# EAGLE library part DS90C124 (library Traficon)
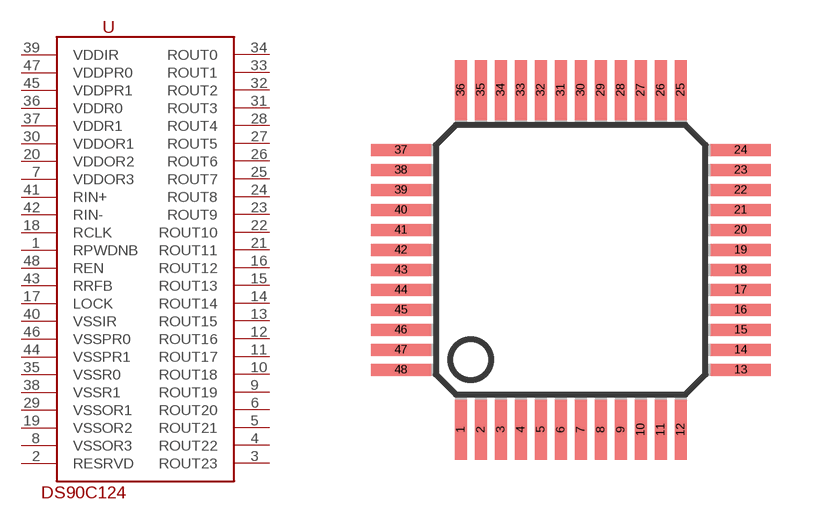
[diagram p169: symbol with the pads of TQFP48; footprint TQFP48]

Designator prefix U

## DS90C124  [TQFP48]
1  RPWDNB  in
2  RESRVD  pas
3  ROUT23  out
4  ROUT22  out
5  ROUT21  out
6  ROUT20  out
7  VDDOR3  sup
8  VSSOR3  sup
9  ROUT19  out
10  ROUT18  out
11  ROUT17  out
12  ROUT16  out
13  ROUT15  out
14  ROUT14  out
15  ROUT13  out
16  ROUT12  out
17  LOCK  out
18  RCLK  out
19  VSSOR2  sup
20  VDDOR2  sup
21  ROUT11  out
22  ROUT10  out
23  ROUT9  out
24  ROUT8  out
25  ROUT7  out
26  ROUT6  out
27  ROUT5  out
28  ROUT4  out
29  VSSOR1  sup
30  VDDOR1  sup
31  ROUT3  out
32  ROUT2  out
33  ROUT1  out
34  ROUT0  out
35  VSSR0  sup
36  VDDR0  sup
37  VDDR1  sup
38  VSSR1  sup
39  VDDIR  sup
40  VSSIR  sup
41  RIN+  in
42  RIN-  in
43  RRFB  in
44  VSSPR1  sup
45  VDDPR1  sup
46  VSSPR0  sup
47  VDDPR0  sup
48  REN  in

## Footprint TQFP48 (pad centres in mm)
Thin Quad Flat Pack
smd 0.3 x 1.5: 1 -2.75,-4.25; 2 -2.25,-4.25; 3 -1.75,-4.25; 4 -1.25,-4.25; 5 -0.75,-4.25; 6 -0.25,-4.25; 7 0.25,-4.25; 8 0.75,-4.25; 9 1.25,-4.25; 10 1.75,-4.25; 11 2.25,-4.25; 12 2.75,-4.25; 25 2.75,4.25; 26 2.25,4.25; 27 1.75,4.25; 28 1.25,4.25; 29 0.75,4.25; 30 0.25,4.25; 31 -0.25,4.25; 32 -0.75,4.25; 33 -1.25,4.25; 34 -1.75,4.25; 35 -2.25,4.25; 36 -2.75,4.25
smd 1.5 x 0.3: 13 4.25,-2.75; 14 4.25,-2.25; 15 4.25,-1.75; 16 4.25,-1.25; 17 4.25,-0.75; 18 4.25,-0.25; 19 4.25,0.25; 20 4.25,0.75; 21 4.25,1.25; 22 4.25,1.75; 23 4.25,2.25; 24 4.25,2.75; 37 -4.25,2.75; 38 -4.25,2.25; 39 -4.25,1.75; 40 -4.25,1.25; 41 -4.25,0.75; 42 -4.25,0.25; 43 -4.25,-0.25; 44 -4.25,-0.75; 45 -4.25,-1.25; 46 -4.25,-1.75; 47 -4.25,-2.25; 48 -4.25,-2.75